# Altium footprint library SON-10_3x3mm.PcbLib: 1 footprints
Each footprint in its own frame and in the unit in brackets; x right, y up, seen from the top. Pads: shape width x height; smd on the part's side, far side on the other; paste and mask are expansions set on the pad; w line width, h text height; cw(c..) or ccw(c..) is an arc to the next point about the centre after c.
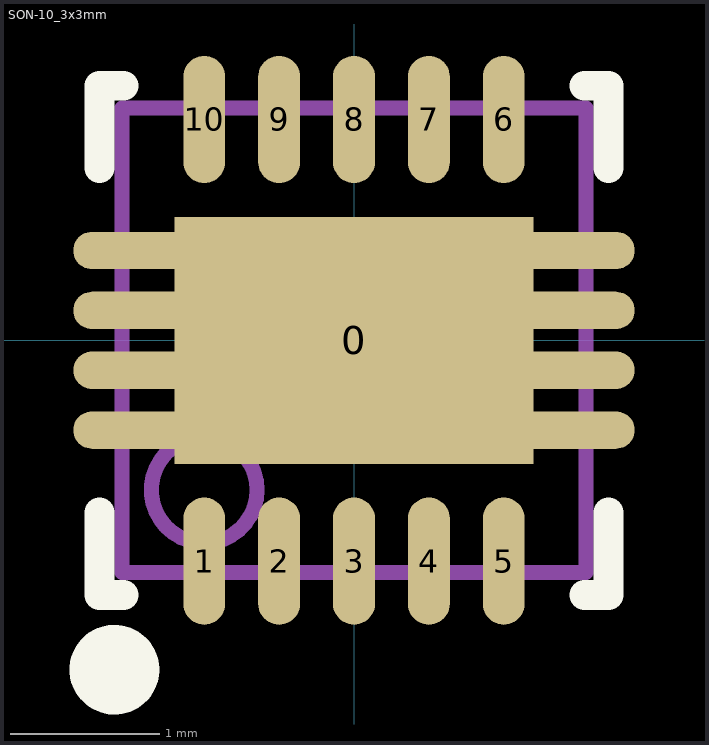
[diagram p0: the footprint, top view; thin cyan lines are the x and y axes]

## SON-10_3x3mm [mm]
pads (19):
  rect 2.4x1.65 smd paste-0.825 mask+0.051: 0(0,0)
  oval 0.28x0.85 smd paste-0.025 mask+0.051: 1(-1,-1.475) 2(-0.5,-1.475) 3(0,-1.475) 4(0.5,-1.475) 5(1,-1.475) 6(1,1.475) 7(0.5,1.475) 8(0,1.475) 9(-0.5,1.475) 10(-1,1.475)
  oval 1x0.25 smd mask+0.051: ""(-1.375,-0.6) ""(-1.375,-0.2) ""(-1.375,0.2) ""(-1.375,0.6) ""(1.375,-0.6) ""(1.375,-0.2) ""(1.375,0.2) ""(1.375,0.6)
Top Overlay:
  circle w0.3: c-1.6,-2.2 r0.15
  lines w0.2: -1.7,-1.15 -1.7,-1.7 -1.54,-1.7 ; -1.7,1.15 -1.7,1.7 -1.54,1.7 ; 1.54,-1.7 1.7,-1.7 1.7,-1.15 ; 1.54,1.7 1.7,1.7 1.7,1.15
Top Paste:
  region: -0.55,0.6 -0.55,-0.6 0.5,-0.6 0.5,0.6
Mechanical 13:
  circle w0.1: c-1,-1 r0.354
  lines w0.1: -1.55,-1.55 1.55,-1.55 1.55,1.55 -1.55,1.55 -1.55,-1.55